# EAGLE library part XC3S2000FG676 (library xilinx_spartan3_virtex4_and_5)
Xilinx FPGA
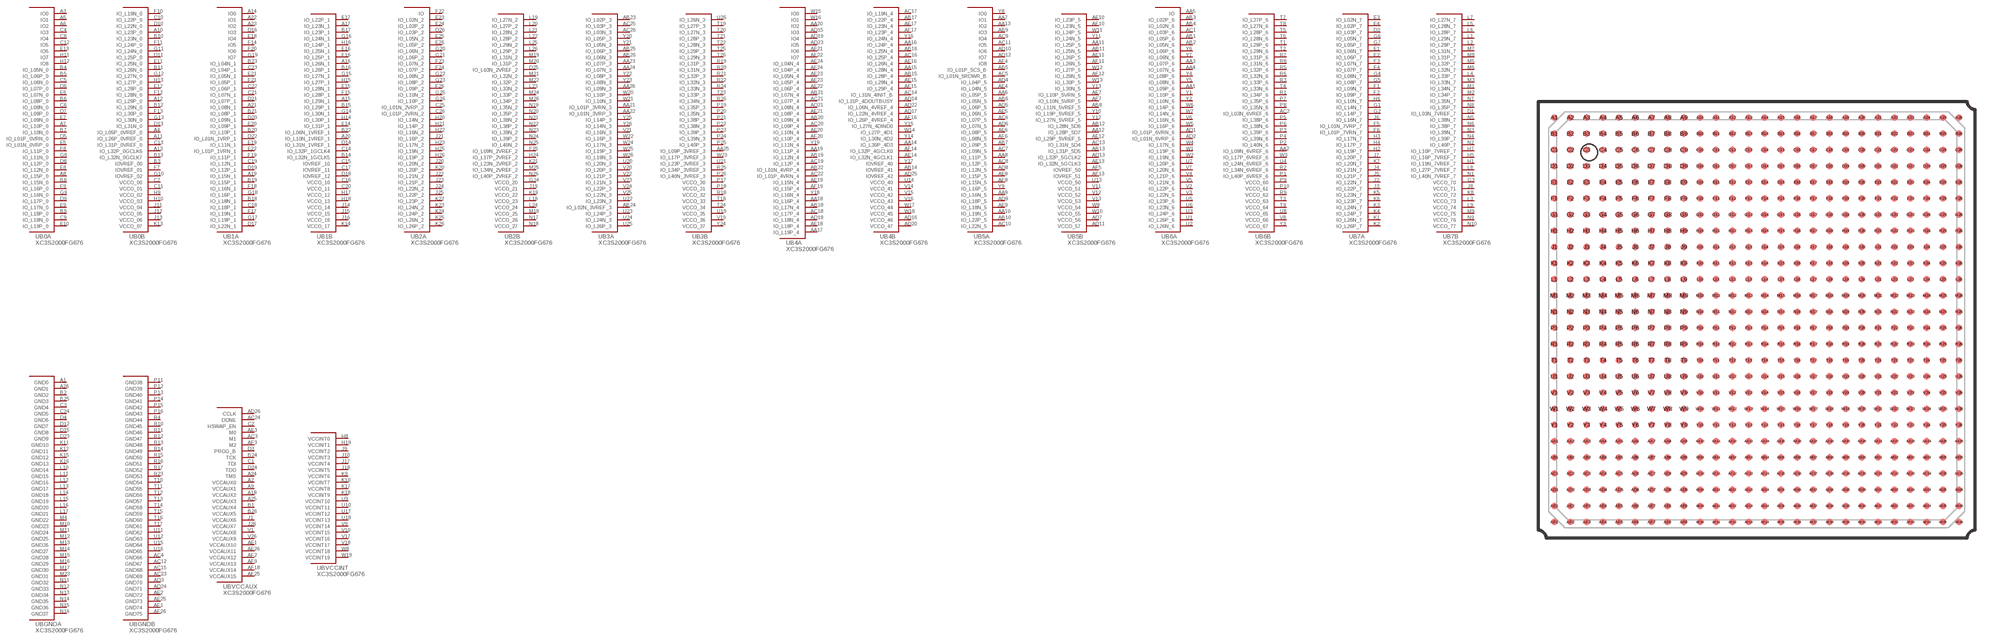
[diagram p21: symbol with the pads of FG676; footprint FG676]

Designator prefix U; gates B0A=XC3S2000FG676_0A B0B=XC3S2000FG676_0B B1A=XC3S2000FG676_1A B1B=XC3S2000FG676_1B B2A=XC3S2000FG676_2A B2B=XC3S2000FG676_2B B3A=XC3S2000FG676_3A B3B=XC3S2000FG676_3B B4A=XC3S2000FG676_4A B4B=XC3S2000FG676_4B B5A=XC3S2000FG676_5A B5B=XC3S2000FG676_5B B6A=XC3S2000FG676_6A B6B=XC3S2000FG676_6B B7A=XC3S2000FG676_7A B7B=XC3S2000FG676_7B BGNDA=XC3S2000FG676_GNDA BGNDB=XC3S2000FG676_GNDB BVCCAUX=XC3S2000FG676_VCCAUX BVCCINT=XC3S2000FG676_VCCINT

## XC3S2000FG676  [FG676]
A1  BGNDA:GND0  pas
A2  BVCCAUX:VCCAUX0  pas
A3  B0A:IO0
A4  B0B:IO_L05P_0VREF_0
A5  B0A:IO1
A6  B0A:IO2
A7  B0A:IO_L10P_0
A8  B0A:IO_L15P_0
A9  BVCCAUX:VCCAUX1  pas
A10  B0B:IO_L23P_0
A11  B0B:IO_L26P_0VREF_0
A12  B0B:IO_L29P_0
A13  B0B:IO_L32P_0GCLK6
A14  B1A:IO0
A15  B1B:IO_L29N_1
A16  B1B:IO_L26N_1
A17  B1B:IO_L23N_1
A18  BVCCAUX:VCCAUX2  pas
A19  B1A:IO_L15N_1
A20  B1B:IO_L10N_1VREF_1
A21  B1A:IO_L08N_1
A22  B1A:IO1
A23  B1A:IO2
A24  BVCCAUX:TMS
A25  BVCCAUX:VCCAUX3  pas
A26  BGNDA:GND1  pas
AA1  B6A:IO_L09P_6
AA2  B6B:IO_L09N_6VREF_6
AA3  B6A:IO_L07P_6
AA4  B6A:IO_L07N_6
AA5  B6A:IO
AA6  B5A:IO_L05P_5
AA7  B5A:IO1
AA8  B5A:IO_L11P_5
AA9  B5A:IO_L16N_5
AA10  B5A:IO_L19N_5
AA11  B5B:IO_L25P_5
AA12  B5B:IO_L28P_5D7
AA13  B5A:IO2
AA14  B4B:IO_L30P_4D3
AA15  B4B:IO_L28N_4
AA16  B4B:IO_L24P_4
AA17  B4A:IO_L19P_4
AA18  B4A:IO_L16P_4
AA19  B4A:IO_L11P_4
AA20  B4A:IO2
AA21  B3A:IO_L01P_3VRN_3
AA22  B3A:IO_L01N_3VRP_3
AA23  B3A:IO_L07P_3
AA24  B3A:IO_L07N_3
AA25  B3B:IO_L09P_3VREF_3
AA26  B3A:IO_L09N_3
AB1  B6A:IO_L05P_6
AB2  B6A:IO_L05N_6
AB3  B6A:IO_L02P_6
AB4  B6A:IO_L02N_6
AB5  B5A:IO_L01P_5CS_B
AB6  B5A:IO_L05N_5
AB7  B5A:IO_L09P_5
AB8  B5B:IO_L11N_5VREF_5
AB9  B5A:IO3
AB10  B5A:IO_L22P_5
AB11  B5B:IO_L25N_5
AB12  B5B:IO_L28N_5D6
AB13  B5B:IO_L31P_5D5
AB14  B4B:IOVREF_41
AB15  B4B:IO_L28P_4
AB16  B4B:IO_L25N_4
AB17  B4B:IO_L22P_4
AB18  B4A:IO_L17N_4
AB19  B4A:IO_L12N_4
AB20  B4A:IO_L09N_4
AB21  B4A:IO_L07N_4
AB22  B4A:IO_L01N_4VRP_4
AB23  B3A:IO_L02P_3
AB24  B3A:IO_L02N_3VREF_3
AB25  B3A:IO_L06P_3
AB26  B3A:IO_L06N_3
AC1  B6A:IO_L03P_6
AC2  B6B:IO_L03N_6VREF_6
AC3  BVCCAUX:M1
AC4  BGNDB:GND66  pas
AC5  B5A:IO_L01N_5RDWR_B
AC6  B5A:IO_L07P_5
AC7  B5A:IO_L09N_5
AC8  B5A:IO_L12P_5
AC9  B5A:IO4
AC10  B5A:IO_L22N_5
AC11  B5A:IO5
AC12  BGNDB:GND67  pas
AC13  B5B:IO_L31N_5D4
AC14  B4B:IO_L31N_4INIT_B
AC15  BGNDB:GND68  pas
AC16  B4B:IO_L25P_4
AC17  B4B:IO_L19N_4
AC18  B4A:IO_L17P_4
AC19  B4A:IO_L12P_4
AC20  B4A:IO_L09P_4
AC21  B4A:IO_L07P_4
AC22  B4A:IO_L01P_4VRN_4
AC23  BGNDB:GND69  pas
AC24  BVCCAUX:DONE
AC25  B3A:IO_L03P_3
AC26  B3A:IO_L03N_3
AD1  B6A:IO_L01P_6VRN_6
AD2  B6A:IO_L01N_6VRP_6
AD3  BGNDB:GND70  pas
AD4  B5A:IO_L04P_5
AD5  B5A:IO_L06P_5
AD6  B5A:IO_L07N_5
AD7  B5B:VCCO_56  pas
AD8  B5A:IO_L12N_5
AD9  B5A:IO_L18P_5
AD10  B5A:IO6
AD11  B5B:VCCO_57  pas
AD12  B5A:IO7
AD13  B5B:IO_L32P_5GCLK2
AD14  B4B:IO_L31P_4DOUTBUSY
AD15  B4A:IO3
AD16  B4B:VCCO_46  pas
AD17  B4B:IO_L22N_4VREF_4
AD18  B4A:IO_L18N_4
AD19  B4A:IO4
AD20  B4B:VCCO_47  pas
AD21  B4A:IO_L08N_4
AD22  B4B:IO_L06N_4VREF_4
AD23  B4A:IO5
AD24  BGNDB:GND71  pas
AD25  B4B:IOVREF_42
AD26  BVCCAUX:CCLK
AE1  BVCCAUX:VCCAUX10  pas
AE2  BGNDB:GND72  pas
AE3  BVCCAUX:M0
AE4  B5A:IO_L04N_5
AE5  B5A:IO_L06N_5
AE6  B5A:IO_L08P_5
AE7  B5B:IO_L10P_5VRN_5
AE8  B5A:IO_L15P_5
AE9  B5A:IO_L18N_5
AE10  B5B:IO_L23P_5
AE11  B5B:IO_L26P_5
AE12  B5B:IO_L29P_5VREF_5
AE13  B5B:IO_L32N_5GCLK3
AE14  B4B:IO_L32N_4GCLK1
AE15  B4B:IO_L29N_4
AE16  B4B:IO_L26N_4
AE17  B4B:IO_L23N_4
AE18  B4A:IO_L18P_4
AE19  B4A:IO_L15N_4
AE20  B4A:IO_L10N_4
AE21  B4A:IO_L08P_4
AE22  B4A:IO_L06P_4
AE23  B4A:IO_L05N_4
AE24  B4A:IO_L04N_4
AE25  BGNDB:GND73  pas
AE26  BVCCAUX:VCCAUX11  pas
AF1  BGNDB:GND74  pas
AF2  BVCCAUX:VCCAUX12  pas
AF3  BVCCAUX:M2
AF4  B5A:IO8
AF5  B5B:IOVREF_50
AF6  B5A:IO_L08N_5
AF7  B5B:IO_L10N_5VRP_5
AF8  B5A:IO_L15N_5
AF9  BVCCAUX:VCCAUX13  pas
AF10  B5B:IO_L23N_5
AF11  B5B:IO_L26N_5
AF12  B5B:IO_L29N_5
AF13  B5B:IOVREF_51
AF14  B4B:IO_L32P_4GCLK0
AF15  B4B:IO_L29P_4
AF16  B4B:IO_L26P_4VREF_4
AF17  B4B:IO_L23P_4
AF18  BVCCAUX:VCCAUX14  pas
AF19  B4A:IO_L15P_4
AF20  B4A:IO_L10P_4
AF21  B4A:IO6
AF22  B4A:IO7
AF23  B4A:IO_L05P_4
AF24  B4A:IO_L04P_4
AF25  BVCCAUX:VCCAUX15  pas
AF26  BGNDB:GND75  pas
B1  BVCCAUX:VCCAUX4  pas
B2  BGNDA:GND2  pas
B3  B0B:IOVREF_00
B4  B0A:IO_L05N_0
B5  B0A:IO_L06P_0
B6  B0A:IO_L08P_0
B7  B0A:IO_L10N_0
B8  B0A:IO_L15N_0
B9  B0A:IO_L18P_0
B10  B0B:IO_L23N_0
B11  B0B:IO_L26N_0
B12  B0B:IO_L29N_0
B13  B0B:IO_L32N_0GCLK7
B14  B1B:IO_L32N_1GCLK5
B15  B1B:IO_L29P_1
B16  B1B:IO_L26P_1
B17  B1B:IO_L23P_1
B18  B1A:IO_L18N_1
B19  B1A:IO_L15P_1
B20  B1A:IO_L10P_1
B21  B1A:IO_L08P_1
B22  B1B:IO_L06N_1VREF_1
B23  B1A:IO_L04N_1
B24  BVCCAUX:TCK
B25  BGNDA:GND3  pas
B26  BVCCAUX:VCCAUX5  pas
C1  BVCCAUX:TDI
C2  BVCCAUX:HSWAP_EN
C3  BGNDA:GND4  pas
C4  B0A:IO3
C5  B0A:IO_L06N_0
C6  B0A:IO_L08N_0
C7  B0B:VCCO_00  pas
C8  B0A:IO4
C9  B0A:IO_L18N_0
C10  B0B:IO_L22P_0
C11  B0B:VCCO_01  pas
C12  B0A:IO5
C13  B0B:IO_L31P_0VREF_0
C14  B1B:IO_L32P_1GCLK4
C15  B1B:IOVREF_10
C16  B1B:VCCO_10  pas
C17  B1B:IOVREF_11
C18  B1A:IO_L18P_1
C19  B1A:IO_L12N_1
C20  B1B:VCCO_11  pas
C21  B1A:IO_L07N_1
C22  B1A:IO_L06P_1
C23  B1A:IO_L04P_1
C24  BGNDA:GND5  pas
C25  B2A:IO_L01N_2VRP_2
C26  B2A:IO_L01P_2VRN_2
D1  B7B:IO_L03N_7VREF_7
D2  B7A:IO_L03P_7
D3  BVCCAUX:PROG_B
D4  BGNDA:GND6  pas
D5  B0A:IO_L01P_0VRN_0
D6  B0A:IO_L07P_0
D7  B0A:IO_L09P_0
D8  B0A:IO_L12P_0
D9  B0A:IO_L17P_0
D10  B0B:IO_L22N_0
D11  B0B:IO_L25P_0
D12  BGNDA:GND7  pas
D13  B0B:IO_L31N_0
D14  B1B:IO_L31N_1VREF_1
D15  BGNDA:GND8  pas
D16  B1A:IO3
D17  B1A:IO_L22N_1
D18  B1B:IOVREF_12
D19  B1A:IO_L12P_1
D20  B1A:IO_L09N_1
D21  B1A:IO_L07P_1
D22  B1A:IO_L01N_1VRP_1
D23  BGNDA:GND9  pas
D24  BVCCAUX:TDO
D25  B2B:IO_L03N_2VREF_2
D26  B2A:IO_L03P_2
E1  B7A:IO_L06N_7
E2  B7A:IO_L06P_7
E3  B7A:IO_L02N_7
E4  B7A:IO_L02P_7
E5  B0A:IO_L01N_0VRP_0
E6  B0A:IO_L07N_0
E7  B0A:IO_L09N_0
E8  B0A:IO_L12N_0
E9  B0A:IO_L17N_0
E10  B0A:IO_L19P_0
E11  B0B:IO_L25N_0
E12  B0B:IO_L28P_0
E13  B0A:IO6
E14  B1B:IO_L31P_1
E15  B1B:IO_L28N_1
E16  B1B:IO_L25N_1
E17  B1B:IO_L22P_1
E18  B1A:IO4
E19  B1A:IO_L11N_1
E20  B1A:IO_L09P_1
E21  B1A:IO_L05N_1
E22  B1A:IO_L01P_1VRN_1
E23  B2A:IO_L02N_2
E24  B2A:IO_L02P_2
E25  B2A:IO_L05N_2
E26  B2A:IO_L05P_2
F1  B7A:IO_L09N_7
F2  B7A:IO_L09P_7
F3  B7A:IO_L07N_7
F4  B7A:IO_L07P_7
F5  B7A:IO_L01N_7VRP_7
F6  B7A:IO_L01P_7VRN_7
F7  B0B:IOVREF_01
F8  B0A:IO_L11P_0
F9  B0A:IO_L16P_0
F10  B0B:IO_L19N_0
F11  B0B:IO_L24P_0
F12  B0B:IO_L28N_0
F13  B0B:IO_L30P_0
F14  B1A:IO5
F15  B1B:IO_L28P_1
F16  B1B:IO_L25P_1
F17  B1A:IO_L19N_1
F18  B1A:IO_L16N_1
F19  B1A:IO_L11P_1
F20  B1A:IO6
F21  B1A:IO_L05P_1
F22  B2A:IO
F23  B2A:IO_L07N_2
F24  B2A:IO_L07P_2
F25  B2B:IO_L09N_2VREF_2
F26  B2A:IO_L09P_2
G1  B7A:IO_L14N_7
G2  B7A:IO_L14P_7
G3  B7B:VCCO_70  pas
G4  B7A:IO_L08N_7
G5  B7A:IO_L08P_7
G6  B7A:IO_L05N_7
G7  B7A:IO_L05P_7
G8  B0A:IO_L11N_0
G9  B0A:IO_L16N_0
G10  B0B:IOVREF_02
G11  B0B:IO_L24N_0
G12  B0B:IO_L27N_0
G13  B0B:IO_L30N_0
G14  B1B:IO_L30N_1
G15  B1B:IO_L27N_1
G16  B1B:IO_L24N_1
G17  B1A:IO_L19P_1
G18  B1A:IO_L16P_1
G19  B1A:IO7
G20  B2A:IO_L06N_2
G21  B2A:IO_L06P_2
G22  B2A:IO_L08N_2
G23  B2A:IO_L08P_2
G24  B2B:VCCO_20  pas
G25  B2A:IO_L10N_2
G26  B2A:IO_L10P_2
H1  B7B:IO_L19N_7VREF_7
H2  B7A:IO_L19P_7
H3  B7A:IO_L17N_7
H4  B7A:IO_L17P_7
H5  B7B:IO_L16P_7VREF_7
H6  B7A:IO_L10N_7
H7  B7B:IO_L10P_7VREF_7
H8  BVCCINT:VCCINT0  pas
H9  B0B:VCCO_02  pas
H10  B0B:VCCO_03  pas
H11  B0A:IO7
H12  B0A:IO8
H13  B0B:IO_L27P_0
H14  B1B:IO_L30P_1
H15  B1B:IO_L27P_1
H16  B1B:IO_L24P_1
H17  B1B:VCCO_12  pas
H18  B1B:VCCO_13  pas
H19  BVCCINT:VCCINT1  pas
H20  B2A:IO_L14N_2
H21  B2A:IO_L14P_2
H22  B2A:IO_L16N_2
H23  B2A:IO_L17N_2
H24  B2B:IO_L17P_2VREF_2
H25  B2A:IO_L19N_2
H26  B2A:IO_L19P_2
J1  BVCCAUX:VCCAUX6  pas
J2  B7A:IO_L22N_7
J3  B7A:IO_L22P_7
J4  B7A:IO_L21N_7
J5  B7A:IO_L21P_7
J6  B7A:IO_L16N_7
J7  B7A:IO_L20P_7
J8  B7B:VCCO_71  pas
J9  BVCCINT:VCCINT2  pas
J10  BVCCINT:VCCINT3  pas
J11  B0B:VCCO_04  pas
J12  B0B:VCCO_05  pas
J13  B0B:VCCO_06  pas
J14  B1B:VCCO_14  pas
J15  B1B:VCCO_15  pas
J16  B1B:VCCO_16  pas
J17  BVCCINT:VCCINT4  pas
J18  BVCCINT:VCCINT5  pas
J19  B2B:VCCO_21  pas
J20  B2A:IO_L20N_2
J21  B2A:IO_L16P_2
J22  B2A:IO_L21N_2
J23  B2A:IO_L21P_2
J24  B2A:IO_L22N_2
J25  B2A:IO_L22P_2
J26  BVCCAUX:VCCAUX7  pas
K1  B7A:IO_L26N_7
K2  B7A:IO_L26P_7
K3  B7A:IO_L24N_7
K4  B7A:IO_L24P_7
K5  B7A:IO_L23N_7
K6  B7A:IO_L23P_7
K7  B7A:IO_L20N_7
K8  B7B:VCCO_72  pas
K9  BVCCINT:VCCINT6  pas
K10  BVCCINT:VCCINT7  pas
K11  BGNDA:GND10  pas
K12  BGNDA:GND11  pas
K13  B0B:VCCO_07  pas
K14  B1B:VCCO_17  pas
K15  BGNDA:GND12  pas
K16  BGNDA:GND13  pas
K17  BVCCINT:VCCINT8  pas
K18  BVCCINT:VCCINT9  pas
K19  B2B:VCCO_22  pas
K20  B2A:IO_L20P_2
K21  B2B:IO_L23N_2VREF_2
K22  B2A:IO_L23P_2
K23  B2A:IO_L24N_2
K24  B2A:IO_L24P_2
K25  B2A:IO_L26N_2
K26  B2A:IO_L26P_2
L1  B7B:IO_L29N_7
L2  B7B:IO_L29P_7
L3  B7B:VCCO_73  pas
L4  B7B:IO_L33P_7
L5  B7B:IO_L28N_7
L6  B7B:IO_L28P_7
L7  B7B:IO_L27N_7
L8  B7B:IO_L27P_7VREF_7
L9  B7B:VCCO_74  pas
L10  BGNDA:GND14  pas
L11  BGNDA:GND15  pas
L12  BGNDA:GND16  pas
L13  BGNDA:GND17  pas
L14  BGNDA:GND18  pas
L15  BGNDA:GND19  pas
L16  BGNDA:GND20  pas
L17  BGNDA:GND21  pas
L18  B2B:VCCO_23  pas
L19  B2B:IO_L27N_2
L20  B2B:IO_L27P_2
L21  B2B:IO_L28N_2
L22  B2B:IO_L28P_2
L23  B2B:IO_L33N_2
L24  B2B:VCCO_24  pas
L25  B2B:IO_L29N_2
L26  B2B:IO_L29P_2
M1  B7B:IO_L34N_7
M2  B7B:IO_L34P_7
M3  B7B:IO_L33N_7
M4  BGNDA:GND22  pas
M5  B7B:IO_L32P_7
M6  B7B:IO_L32N_7
M7  B7B:IO_L31N_7
M8  B7B:IO_L31P_7
M9  B7B:VCCO_75  pas
M10  BGNDA:GND23  pas
M11  BGNDA:GND24  pas
M12  BGNDA:GND25  pas
M13  BGNDA:GND26  pas
M14  BGNDA:GND27  pas
M15  BGNDA:GND28  pas
M16  BGNDA:GND29  pas
M17  BGNDA:GND30  pas
M18  B2B:VCCO_25  pas
M19  B2B:IO_L31N_2
M20  B2B:IO_L31P_2
M21  B2B:IO_L32N_2
M22  B2B:IO_L32P_2
M23  BGNDA:GND31  pas
M24  B2B:IO_L33P_2
M25  B2B:IO_L34N_2VREF_2
M26  B2B:IO_L34P_2
N1  B7B:IO_L40N_7VREF_7
N2  B7B:IO_L40P_7
N3  B7B:IO_L39N_7
N4  B7B:IO_L39P_7
N5  B7B:IO_L38N_7
N6  B7B:IO_L38P_7
N7  B7B:IO_L35N_7
N8  B7B:IO_L35P_7
N9  B7B:VCCO_76  pas
N10  B7B:VCCO_77  pas
N11  BGNDA:GND32  pas
N12  BGNDA:GND33  pas
N13  BGNDA:GND34  pas
N14  BGNDA:GND35  pas
N15  BGNDA:GND36  pas
N16  BGNDA:GND37  pas
N17  B2B:VCCO_26  pas
N18  B2B:VCCO_27  pas
N19  B2B:IO_L35N_2
N20  B2B:IO_L35P_2
N21  B2B:IO_L38N_2
N22  B2B:IO_L38P_2
N23  B2B:IO_L39N_2
N24  B2B:IO_L39P_2
N25  B2B:IO_L40N_2
N26  B2B:IO_L40P_2VREF_2
P1  B6B:IO_L40P_6VREF_6
P2  B6B:IO_L40N_6
P3  B6B:IO_L39P_6
P4  B6B:IO_L39N_6
P5  B6B:IO_L38P_6
P6  B6B:IO_L38N_6
P7  B6B:IO_L35P_6
P8  B6B:IO_L35N_6
P9  B6B:VCCO_60  pas
P10  B6B:VCCO_61  pas
P11  BGNDB:GND38  pas
P12  BGNDB:GND39  pas
P13  BGNDB:GND40  pas
P14  BGNDB:GND41  pas
P15  BGNDB:GND42  pas
P16  BGNDB:GND43  pas
P17  B3B:VCCO_30  pas
P18  B3B:VCCO_31  pas
P19  B3B:IO_L35P_3
P20  B3B:IO_L35N_3
P21  B3B:IO_L38P_3
P22  B3B:IO_L38N_3
P23  B3B:IO_L39P_3
P24  B3B:IO_L39N_3
P25  B3B:IO_L40P_3
P26  B3B:IO_L40N_3VREF_3
R1  B6B:IO_L34P_6
R2  B6B:IO_L34N_6VREF_6
R3  B6B:IO_L33P_6
R4  BGNDB:GND44  pas
R5  B6B:IO_L32P_6
R6  B6B:IO_L32N_6
R7  B6B:IO_L31P_6
R8  B6B:IO_L31N_6
R9  B6B:VCCO_62  pas
R10  BGNDB:GND45  pas
R11  BGNDB:GND46  pas
R12  BGNDB:GND47  pas
R13  BGNDB:GND48  pas
R14  BGNDB:GND49  pas
R15  BGNDB:GND50  pas
R16  BGNDB:GND51  pas
R17  BGNDB:GND52  pas
R18  B3B:VCCO_32  pas
R19  B3B:IO_L31P_3
R20  B3B:IO_L31N_3
R21  B3B:IO_L32P_3
R22  B3B:IO_L32N_3
R23  BGNDB:GND53  pas
R24  B3B:IO_L33N_3
R25  B3B:IO_L34P_3VREF_3
R26  B3B:IO_L34N_3
T1  B6B:IO_L29P_6
T2  B6B:IO_L29N_6
T3  B6B:VCCO_63  pas
T4  B6B:IO_L33N_6
T5  B6B:IO_L28P_6
T6  B6B:IO_L28N_6
T7  B6B:IO_L27P_6
T8  B6B:IO_L27N_6
T9  B6B:VCCO_64  pas
T10  BGNDB:GND54  pas
T11  BGNDB:GND55  pas
T12  BGNDB:GND56  pas
T13  BGNDB:GND57  pas
T14  BGNDB:GND58  pas
T15  BGNDB:GND59  pas
T16  BGNDB:GND60  pas
T17  BGNDB:GND61  pas
T18  B3B:VCCO_33  pas
T19  B3B:IO_L27P_3
T20  B3B:IO_L27N_3
T21  B3B:IO_L28P_3
T22  B3B:IO_L28N_3
T23  B3B:IO_L33P_3
T24  B3B:VCCO_34  pas
T25  B3B:IO_L29P_3
T26  B3B:IO_L29N_3
U1  B6A:IO_L26P_6
U2  B6A:IO_L26N_6
U3  B6A:IO_L24P_6
U4  B6B:IO_L24N_6VREF_6
U5  B6A:IO_L23P_6
U6  B6A:IO_L23N_6
U7  B6A:IO_L20P_6
U8  B6B:VCCO_65  pas
U9  BVCCINT:VCCINT10  pas
U10  BVCCINT:VCCINT11  pas
U11  BGNDB:GND62  pas
U12  BGNDB:GND63  pas
U13  B5B:VCCO_50  pas
U14  B4B:VCCO_40  pas
U15  BGNDB:GND64  pas
U16  BGNDB:GND65  pas
U17  BVCCINT:VCCINT12  pas
U18  BVCCINT:VCCINT13  pas
U19  B3B:VCCO_35  pas
U20  B3A:IO_L20N_3
U21  B3B:IO_L23P_3VREF_3
U22  B3A:IO_L23N_3
U23  B3A:IO_L24P_3
U24  B3A:IO_L24N_3
U25  B3A:IO_L26P_3
U26  B3B:IO_L26N_3
V1  BVCCAUX:VCCAUX8  pas
V2  B6A:IO_L22P_6
V3  B6A:IO_L22N_6
V4  B6A:IO_L21P_6
V5  B6A:IO_L21N_6
V6  B6A:IO_L16N_6
V7  B6A:IO_L20N_6
V8  B6B:VCCO_66  pas
V9  BVCCINT:VCCINT14  pas
V10  BVCCINT:VCCINT15  pas
V11  B5B:VCCO_51  pas
V12  B5B:VCCO_52  pas
V13  B5B:VCCO_53  pas
V14  B4B:VCCO_41  pas
V15  B4B:VCCO_42  pas
V16  B4B:VCCO_43  pas
V17  BVCCINT:VCCINT16  pas
V18  BVCCINT:VCCINT17  pas
V19  B3B:VCCO_36  pas
V20  B3A:IO_L20P_3
V21  B3A:IO_L16N_3
V22  B3A:IO_L21P_3
V23  B3A:IO_L21N_3
V24  B3A:IO_L22P_3
V25  B3A:IO_L22N_3
V26  BVCCAUX:VCCAUX9  pas
W1  B6A:IO_L19P_6
W2  B6A:IO_L19N_6
W3  B6B:IO_L17P_6VREF_6
W4  B6A:IO_L17N_6
W5  B6A:IO_L16P_6
W6  B6A:IO_L14P_6
W7  B6A:IO_L14N_6
W8  BVCCINT:VCCINT18  pas
W9  B5B:VCCO_54  pas
W10  B5B:VCCO_55  pas
W11  B5B:IO_L24P_5
W12  B5B:IO_L27P_5
W13  B5B:IO_L30P_5
W14  B4B:IO_L27P_4D1
W15  B4A:IO0
W16  B4A:IO1
W17  B4B:VCCO_44  pas
W18  B4B:VCCO_45  pas
W19  BVCCINT:VCCINT19  pas
W20  B3A:IO_L10P_3
W21  B3A:IO_L10N_3
W22  B3A:IO_L16P_3
W23  B3B:IO_L17P_3VREF_3
W24  B3A:IO_L17N_3
W25  B3A:IO_L19P_3
W26  B3A:IO_L19N_3
Y1  B6A:IO_L10P_6
Y2  B6A:IO_L10N_6
Y3  B6B:VCCO_67  pas
Y4  B6A:IO_L08P_6
Y5  B6A:IO_L08N_6
Y6  B6A:IO_L06P_6
Y7  B6A:IO_L06N_6
Y8  B5A:IO0
Y9  B5A:IO_L16P_5
Y10  B5B:IO_L19P_5VREF_5
Y11  B5B:IO_L24N_5
Y12  B5B:IO_L27N_5VREF_5
Y13  B5B:IO_L30N_5
Y14  B4B:IO_L30N_4D2
Y15  B4B:IO_L27N_4DIND0
Y16  B4B:IO_L24N_4
Y17  B4B:IOVREF_40
Y18  B4A:IO_L16N_4
Y19  B4A:IO_L11N_4
Y20  B3A:IO_L05P_3
Y21  B3A:IO_L05N_3
Y22  B3A:IO_L08P_3
Y23  B3A:IO_L08N_3
Y24  B3B:VCCO_37  pas
Y25  B3A:IO_L14P_3
Y26  B3A:IO_L14N_3

## Footprint FG676 (pad centres in mm)
smd 0.4 x 0.4: A1 -12.5,12.5; A2 -11.5,12.5; A3 -10.5,12.5; A4 -9.5,12.5; A5 -8.5,12.5; A6 -7.5,12.5; A7 -6.5,12.5; A8 -5.5,12.5; A9 -4.5,12.5; A10 -3.5,12.5; A11 -2.5,12.5; A12 -1.5,12.5; A13 -0.5,12.5; A14 0.5,12.5; A15 1.5,12.5; A16 2.5,12.5; A17 3.5,12.5; A18 4.5,12.5; A19 5.5,12.5; A20 6.5,12.5; A21 7.5,12.5; A22 8.5,12.5; A23 9.5,12.5; A24 10.5,12.5; A25 11.5,12.5; A26 12.5,12.5; AA1 -12.5,-7.5; AA2 -11.5,-7.5; AA3 -10.5,-7.5; AA4 -9.5,-7.5; AA5 -8.5,-7.5; AA6 -7.5,-7.5; AA7 -6.5,-7.5; AA8 -5.5,-7.5; AA9 -4.5,-7.5; AA10 -3.5,-7.5; AA11 -2.5,-7.5; AA12 -1.5,-7.5; AA13 -0.5,-7.5; AA14 0.5,-7.5; AA15 1.5,-7.5; AA16 2.5,-7.5; AA17 3.5,-7.5; AA18 4.5,-7.5; AA19 5.5,-7.5; AA20 6.5,-7.5; AA21 7.5,-7.5; AA22 8.5,-7.5; AA23 9.5,-7.5; AA24 10.5,-7.5; AA25 11.5,-7.5; AA26 12.5,-7.5; AB1 -12.5,-8.5; AB2 -11.5,-8.5; AB3 -10.5,-8.5; AB4 -9.5,-8.5; AB5 -8.5,-8.5; AB6 -7.5,-8.5; AB7 -6.5,-8.5; AB8 -5.5,-8.5; AB9 -4.5,-8.5; AB10 -3.5,-8.5; AB11 -2.5,-8.5; AB12 -1.5,-8.5; AB13 -0.5,-8.5; AB14 0.5,-8.5; AB15 1.5,-8.5; AB16 2.5,-8.5; AB17 3.5,-8.5; AB18 4.5,-8.5; AB19 5.5,-8.5; AB20 6.5,-8.5; AB21 7.5,-8.5; AB22 8.5,-8.5; AB23 9.5,-8.5; AB24 10.5,-8.5; AB25 11.5,-8.5; AB26 12.5,-8.5; AC1 -12.5,-9.5; AC2 -11.5,-9.5; AC3 -10.5,-9.5; AC4 -9.5,-9.5; AC5 -8.5,-9.5; AC6 -7.5,-9.5; AC7 -6.5,-9.5; AC8 -5.5,-9.5; AC9 -4.5,-9.5; AC10 -3.5,-9.5; AC11 -2.5,-9.5; AC12 -1.5,-9.5; AC13 -0.5,-9.5; AC14 0.5,-9.5; AC15 1.5,-9.5; AC16 2.5,-9.5; AC17 3.5,-9.5; AC18 4.5,-9.5; AC19 5.5,-9.5; AC20 6.5,-9.5; AC21 7.5,-9.5; AC22 8.5,-9.5; AC23 9.5,-9.5; AC24 10.5,-9.5; AC25 11.5,-9.5; AC26 12.5,-9.5; AD1 -12.5,-10.5; AD2 -11.5,-10.5; AD3 -10.5,-10.5; AD4 -9.5,-10.5; AD5 -8.5,-10.5; AD6 -7.5,-10.5; AD7 -6.5,-10.5; AD8 -5.5,-10.5; AD9 -4.5,-10.5; AD10 -3.5,-10.5; AD11 -2.5,-10.5; AD12 -1.5,-10.5; AD13 -0.5,-10.5; AD14 0.5,-10.5; AD15 1.5,-10.5; AD16 2.5,-10.5; AD17 3.5,-10.5; AD18 4.5,-10.5; AD19 5.5,-10.5; AD20 6.5,-10.5; AD21 7.5,-10.5; AD22 8.5,-10.5; AD23 9.5,-10.5; AD24 10.5,-10.5; AD25 11.5,-10.5; AD26 12.5,-10.5; AE1 -12.5,-11.5; AE2 -11.5,-11.5; AE3 -10.5,-11.5; AE4 -9.5,-11.5; AE5 -8.5,-11.5; AE6 -7.5,-11.5; AE7 -6.5,-11.5; AE8 -5.5,-11.5; AE9 -4.5,-11.5; AE10 -3.5,-11.5; AE11 -2.5,-11.5; AE12 -1.5,-11.5; AE13 -0.5,-11.5; AE14 0.5,-11.5; AE15 1.5,-11.5; AE16 2.5,-11.5; AE17 3.5,-11.5; AE18 4.5,-11.5; AE19 5.5,-11.5; AE20 6.5,-11.5; AE21 7.5,-11.5; AE22 8.5,-11.5; AE23 9.5,-11.5; AE24 10.5,-11.5; AE25 11.5,-11.5; AE26 12.5,-11.5; AF1 -12.5,-12.5; AF2 -11.5,-12.5; AF3 -10.5,-12.5; AF4 -9.5,-12.5; AF5 -8.5,-12.5; AF6 -7.5,-12.5; AF7 -6.5,-12.5; AF8 -5.5,-12.5; AF9 -4.5,-12.5; AF10 -3.5,-12.5; AF11 -2.5,-12.5; AF12 -1.5,-12.5; AF13 -0.5,-12.5; AF14 0.5,-12.5; AF15 1.5,-12.5; AF16 2.5,-12.5; AF17 3.5,-12.5; AF18 4.5,-12.5; AF19 5.5,-12.5; AF20 6.5,-12.5; AF21 7.5,-12.5; AF22 8.5,-12.5; AF23 9.5,-12.5; AF24 10.5,-12.5; AF25 11.5,-12.5; AF26 12.5,-12.5; B1 -12.5,11.5; B2 -11.5,11.5; B3 -10.5,11.5; B4 -9.5,11.5; B5 -8.5,11.5; B6 -7.5,11.5; B7 -6.5,11.5; B8 -5.5,11.5; B9 -4.5,11.5; B10 -3.5,11.5; B11 -2.5,11.5; B12 -1.5,11.5; B13 -0.5,11.5; B14 0.5,11.5; B15 1.5,11.5; B16 2.5,11.5; B17 3.5,11.5; B18 4.5,11.5; B19 5.5,11.5; B20 6.5,11.5; B21 7.5,11.5; B22 8.5,11.5; B23 9.5,11.5; B24 10.5,11.5; B25 11.5,11.5; B26 12.5,11.5; C1 -12.5,10.5; C2 -11.5,10.5; C3 -10.5,10.5; C4 -9.5,10.5; C5 -8.5,10.5; C6 -7.5,10.5; C7 -6.5,10.5; C8 -5.5,10.5; C9 -4.5,10.5; C10 -3.5,10.5; C11 -2.5,10.5; C12 -1.5,10.5; C13 -0.5,10.5; C14 0.5,10.5; C15 1.5,10.5; C16 2.5,10.5; C17 3.5,10.5; C18 4.5,10.5; C19 5.5,10.5; C20 6.5,10.5; C21 7.5,10.5; C22 8.5,10.5; C23 9.5,10.5; C24 10.5,10.5; C25 11.5,10.5; C26 12.5,10.5; D1 -12.5,9.5; D2 -11.5,9.5; D3 -10.5,9.5; D4 -9.5,9.5; D5 -8.5,9.5; D6 -7.5,9.5; D7 -6.5,9.5; D8 -5.5,9.5; D9 -4.5,9.5; D10 -3.5,9.5; D11 -2.5,9.5; D12 -1.5,9.5; D13 -0.5,9.5; D14 0.5,9.5; D15 1.5,9.5; D16 2.5,9.5; D17 3.5,9.5; D18 4.5,9.5; D19 5.5,9.5; D20 6.5,9.5; D21 7.5,9.5; D22 8.5,9.5; D23 9.5,9.5; D24 10.5,9.5; D25 11.5,9.5; D26 12.5,9.5; E1 -12.5,8.5; E2 -11.5,8.5; E3 -10.5,8.5; E4 -9.5,8.5; E5 -8.5,8.5; E6 -7.5,8.5; E7 -6.5,8.5; E8 -5.5,8.5; E9 -4.5,8.5; E10 -3.5,8.5; E11 -2.5,8.5; E12 -1.5,8.5; E13 -0.5,8.5; E14 0.5,8.5; E15 1.5,8.5; E16 2.5,8.5; E17 3.5,8.5; E18 4.5,8.5; E19 5.5,8.5; E20 6.5,8.5; E21 7.5,8.5; E22 8.5,8.5; E23 9.5,8.5; E24 10.5,8.5; E25 11.5,8.5; E26 12.5,8.5; F1 -12.5,7.5; F2 -11.5,7.5; F3 -10.5,7.5; F4 -9.5,7.5; F5 -8.5,7.5; F6 -7.5,7.5; F7 -6.5,7.5; F8 -5.5,7.5; F9 -4.5,7.5; F10 -3.5,7.5; F11 -2.5,7.5; F12 -1.5,7.5; F13 -0.5,7.5; F14 0.5,7.5; F15 1.5,7.5; F16 2.5,7.5; F17 3.5,7.5; F18 4.5,7.5; F19 5.5,7.5; F20 6.5,7.5; F21 7.5,7.5; F22 8.5,7.5; F23 9.5,7.5; F24 10.5,7.5; F25 11.5,7.5; F26 12.5,7.5; G1 -12.5,6.5; G2 -11.5,6.5; G3 -10.5,6.5; G4 -9.5,6.5; G5 -8.5,6.5; G6 -7.5,6.5; G7 -6.5,6.5; G8 -5.5,6.5; G9 -4.5,6.5; G10 -3.5,6.5; G11 -2.5,6.5; G12 -1.5,6.5; G13 -0.5,6.5; G14 0.5,6.5; G15 1.5,6.5; G16 2.5,6.5; G17 3.5,6.5; G18 4.5,6.5; G19 5.5,6.5; G20 6.5,6.5; G21 7.5,6.5; G22 8.5,6.5; G23 9.5,6.5; G24 10.5,6.5; G25 11.5,6.5; G26 12.5,6.5; H1 -12.5,5.5; H2 -11.5,5.5; H3 -10.5,5.5; H4 -9.5,5.5; H5 -8.5,5.5; H6 -7.5,5.5; H7 -6.5,5.5; H8 -5.5,5.5; H9 -4.5,5.5; H10 -3.5,5.5; H11 -2.5,5.5; H12 -1.5,5.5; H13 -0.5,5.5; H14 0.5,5.5; H15 1.5,5.5; H16 2.5,5.5; H17 3.5,5.5; H18 4.5,5.5; H19 5.5,5.5; H20 6.5,5.5; H21 7.5,5.5; H22 8.5,5.5; H23 9.5,5.5; H24 10.5,5.5; H25 11.5,5.5; H26 12.5,5.5; J1 -12.5,4.5; J2 -11.5,4.5; J3 -10.5,4.5; J4 -9.5,4.5; J5 -8.5,4.5; J6 -7.5,4.5; J7 -6.5,4.5; J8 -5.5,4.5; J9 -4.5,4.5; J10 -3.5,4.5; J11 -2.5,4.5; J12 -1.5,4.5; J13 -0.5,4.5; J14 0.5,4.5; J15 1.5,4.5; J16 2.5,4.5; J17 3.5,4.5; J18 4.5,4.5; J19 5.5,4.5; J20 6.5,4.5; J21 7.5,4.5; J22 8.5,4.5; J23 9.5,4.5; J24 10.5,4.5; J25 11.5,4.5; J26 12.5,4.5; K1 -12.5,3.5; K2 -11.5,3.5; K3 -10.5,3.5; K4 -9.5,3.5; K5 -8.5,3.5; K6 -7.5,3.5; K7 -6.5,3.5; K8 -5.5,3.5; K9 -4.5,3.5; K10 -3.5,3.5; K11 -2.5,3.5; K12 -1.5,3.5; K13 -0.5,3.5; K14 0.5,3.5; K15 1.5,3.5; K16 2.5,3.5; K17 3.5,3.5; K18 4.5,3.5; K19 5.5,3.5; K20 6.5,3.5; K21 7.5,3.5; K22 8.5,3.5; K23 9.5,3.5; K24 10.5,3.5; K25 11.5,3.5; K26 12.5,3.5; L1 -12.5,2.5; L2 -11.5,2.5; L3 -10.5,2.5; L4 -9.5,2.5; L5 -8.5,2.5; L6 -7.5,2.5; L7 -6.5,2.5; L8 -5.5,2.5; L9 -4.5,2.5; L10 -3.5,2.5; L11 -2.5,2.5; L12 -1.5,2.5; L13 -0.5,2.5; L14 0.5,2.5; L15 1.5,2.5; L16 2.5,2.5; L17 3.5,2.5; L18 4.5,2.5; L19 5.5,2.5; L20 6.5,2.5; L21 7.5,2.5; L22 8.5,2.5; L23 9.5,2.5; L24 10.5,2.5; L25 11.5,2.5; L26 12.5,2.5; M1 -12.5,1.5; M2 -11.5,1.5; M3 -10.5,1.5; M4 -9.5,1.5; M5 -8.5,1.5; M6 -7.5,1.5; M7 -6.5,1.5; M8 -5.5,1.5; M9 -4.5,1.5; M10 -3.5,1.5; M11 -2.5,1.5; M12 -1.5,1.5; M13 -0.5,1.5; M14 0.5,1.5; M15 1.5,1.5; M16 2.5,1.5; M17 3.5,1.5; M18 4.5,1.5; M19 5.5,1.5; M20 6.5,1.5; M21 7.5,1.5; M22 8.5,1.5; M23 9.5,1.5; M24 10.5,1.5; M25 11.5,1.5; M26 12.5,1.5; N1 -12.5,0.5; N2 -11.5,0.5; N3 -10.5,0.5; N4 -9.5,0.5; N5 -8.5,0.5; N6 -7.5,0.5; N7 -6.5,0.5; N8 -5.5,0.5; N9 -4.5,0.5; N10 -3.5,0.5; N11 -2.5,0.5; N12 -1.5,0.5; N13 -0.5,0.5; N14 0.5,0.5; N15 1.5,0.5; N16 2.5,0.5; N17 3.5,0.5; N18 4.5,0.5; N19 5.5,0.5; N20 6.5,0.5; N21 7.5,0.5; N22 8.5,0.5; N23 9.5,0.5; N24 10.5,0.5; N25 11.5,0.5; N26 12.5,0.5; P1 -12.5,-0.5; P2 -11.5,-0.5; P3 -10.5,-0.5; P4 -9.5,-0.5; P5 -8.5,-0.5; P6 -7.5,-0.5; P7 -6.5,-0.5; P8 -5.5,-0.5; P9 -4.5,-0.5; P10 -3.5,-0.5; P11 -2.5,-0.5; P12 -1.5,-0.5; P13 -0.5,-0.5; P14 0.5,-0.5; P15 1.5,-0.5; P16 2.5,-0.5; P17 3.5,-0.5; P18 4.5,-0.5; P19 5.5,-0.5; P20 6.5,-0.5; P21 7.5,-0.5; P22 8.5,-0.5; P23 9.5,-0.5; P24 10.5,-0.5; P25 11.5,-0.5; P26 12.5,-0.5; R1 -12.5,-1.5; R2 -11.5,-1.5; R3 -10.5,-1.5; R4 -9.5,-1.5; R5 -8.5,-1.5; R6 -7.5,-1.5; R7 -6.5,-1.5; R8 -5.5,-1.5; R9 -4.5,-1.5; R10 -3.5,-1.5; R11 -2.5,-1.5; R12 -1.5,-1.5; R13 -0.5,-1.5; R14 0.5,-1.5; R15 1.5,-1.5; R16 2.5,-1.5; R17 3.5,-1.5; R18 4.5,-1.5; R19 5.5,-1.5; R20 6.5,-1.5; R21 7.5,-1.5; R22 8.5,-1.5; R23 9.5,-1.5; R24 10.5,-1.5; R25 11.5,-1.5; R26 12.5,-1.5; T1 -12.5,-2.5; T2 -11.5,-2.5; T3 -10.5,-2.5; T4 -9.5,-2.5; T5 -8.5,-2.5; T6 -7.5,-2.5; T7 -6.5,-2.5; T8 -5.5,-2.5; T9 -4.5,-2.5; T10 -3.5,-2.5; T11 -2.5,-2.5; T12 -1.5,-2.5; T13 -0.5,-2.5; T14 0.5,-2.5; T15 1.5,-2.5; T16 2.5,-2.5; T17 3.5,-2.5; T18 4.5,-2.5; T19 5.5,-2.5; T20 6.5,-2.5; T21 7.5,-2.5; T22 8.5,-2.5; T23 9.5,-2.5; T24 10.5,-2.5; T25 11.5,-2.5; T26 12.5,-2.5; U1 -12.5,-3.5; U2 -11.5,-3.5; U3 -10.5,-3.5; U4 -9.5,-3.5; U5 -8.5,-3.5; U6 -7.5,-3.5; U7 -6.5,-3.5; U8 -5.5,-3.5; U9 -4.5,-3.5; U10 -3.5,-3.5; U11 -2.5,-3.5; U12 -1.5,-3.5; U13 -0.5,-3.5; U14 0.5,-3.5; U15 1.5,-3.5; U16 2.5,-3.5; U17 3.5,-3.5; U18 4.5,-3.5; U19 5.5,-3.5; U20 6.5,-3.5; U21 7.5,-3.5; U22 8.5,-3.5; U23 9.5,-3.5; U24 10.5,-3.5; U25 11.5,-3.5; U26 12.5,-3.5; V1 -12.5,-4.5; V2 -11.5,-4.5; V3 -10.5,-4.5; V4 -9.5,-4.5; V5 -8.5,-4.5; V6 -7.5,-4.5; V7 -6.5,-4.5; V8 -5.5,-4.5; V9 -4.5,-4.5; V10 -3.5,-4.5; V11 -2.5,-4.5; V12 -1.5,-4.5; V13 -0.5,-4.5; V14 0.5,-4.5; V15 1.5,-4.5; V16 2.5,-4.5; V17 3.5,-4.5; V18 4.5,-4.5; V19 5.5,-4.5; V20 6.5,-4.5; V21 7.5,-4.5; V22 8.5,-4.5; V23 9.5,-4.5; V24 10.5,-4.5; V25 11.5,-4.5; V26 12.5,-4.5; W1 -12.5,-5.5; W2 -11.5,-5.5; W3 -10.5,-5.5; W4 -9.5,-5.5; W5 -8.5,-5.5; W6 -7.5,-5.5; W7 -6.5,-5.5; W8 -5.5,-5.5; W9 -4.5,-5.5; W10 -3.5,-5.5; W11 -2.5,-5.5; W12 -1.5,-5.5; W13 -0.5,-5.5; W14 0.5,-5.5; W15 1.5,-5.5; W16 2.5,-5.5; W17 3.5,-5.5; W18 4.5,-5.5; W19 5.5,-5.5; W20 6.5,-5.5; W21 7.5,-5.5; W22 8.5,-5.5; W23 9.5,-5.5; W24 10.5,-5.5; W25 11.5,-5.5; W26 12.5,-5.5; Y1 -12.5,-6.5; Y2 -11.5,-6.5; Y3 -10.5,-6.5; Y4 -9.5,-6.5; Y5 -8.5,-6.5; Y6 -7.5,-6.5; Y7 -6.5,-6.5; Y8 -5.5,-6.5; Y9 -4.5,-6.5; Y10 -3.5,-6.5; Y11 -2.5,-6.5; Y12 -1.5,-6.5; Y13 -0.5,-6.5; Y14 0.5,-6.5; Y15 1.5,-6.5; Y16 2.5,-6.5; Y17 3.5,-6.5; Y18 4.5,-6.5; Y19 5.5,-6.5; Y20 6.5,-6.5; Y21 7.5,-6.5; Y22 8.5,-6.5; Y23 9.5,-6.5; Y24 10.5,-6.5; Y25 11.5,-6.5; Y26 12.5,-6.5